# EAGLE library part LPC12D27FBD100 (library nxp_60_1_1)
LPC12D27 32-bit ARM Cortex-M0 microcontroller; 128 kB flash and 8 kB SRAM; 40 segment x 4 LCD driver AAL Eindhoven MK
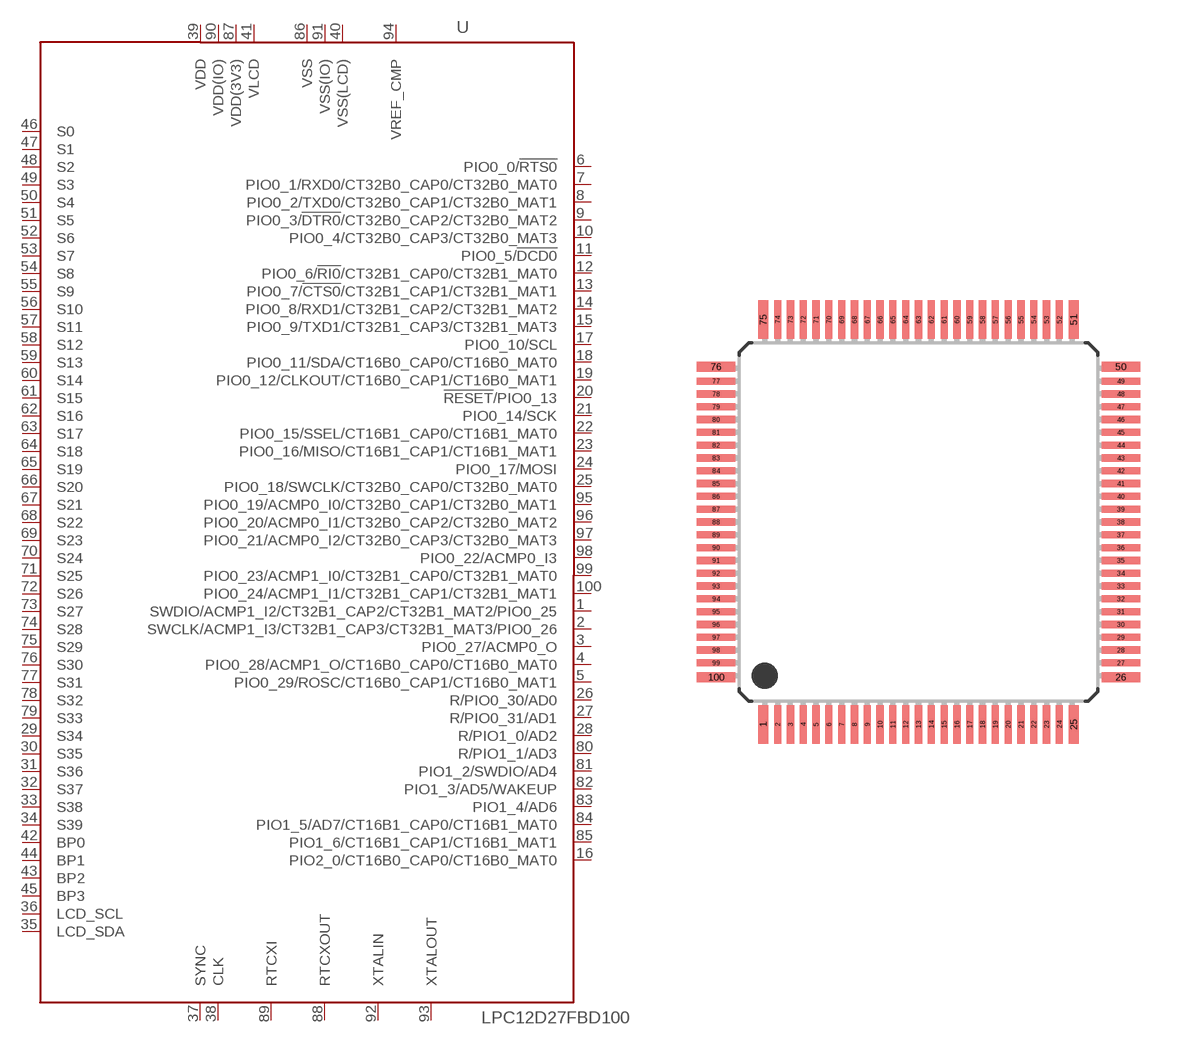
[diagram p39: symbol with the pads of SOT407-1; footprint SOT407-1]

Designator prefix U

## LPC12D27FBD100  [SOT407-1]
1  SWDIO/ACMP1_I2/CT32B1_CAP2/CT32B1_MAT2/PIO0_25
2  SWCLK/ACMP1_I3/CT32B1_CAP3/CT32B1_MAT3/PIO0_26
3  PIO0_27/ACMP0_O
4  PIO0_28/ACMP1_O/CT16B0_CAP0/CT16B0_MAT0
5  PIO0_29/ROSC/CT16B0_CAP1/CT16B0_MAT1
6  PIO0_0/!RTS0!
7  PIO0_1/RXD0/CT32B0_CAP0/CT32B0_MAT0
8  PIO0_2/TXD0/CT32B0_CAP1/CT32B0_MAT1
9  PIO0_3/!DTR0!/CT32B0_CAP2/CT32B0_MAT2
10  PIO0_4/CT32B0_CAP3/CT32B0_MAT3
11  PIO0_5/!DCD0!
12  PIO0_6/!RI0!/CT32B1_CAP0/CT32B1_MAT0
13  PIO0_7/!CTS0!/CT32B1_CAP1/CT32B1_MAT1
14  PIO0_8/RXD1/CT32B1_CAP2/CT32B1_MAT2
15  PIO0_9/TXD1/CT32B1_CAP3/CT32B1_MAT3
16  PIO2_0/CT16B0_CAP0/CT16B0_MAT0
17  PIO0_10/SCL
18  PIO0_11/SDA/CT16B0_CAP0/CT16B0_MAT0
19  PIO0_12/CLKOUT/CT16B0_CAP1/CT16B0_MAT1
20  !RESET!/PIO0_13
21  PIO0_14/SCK
22  PIO0_15/SSEL/CT16B1_CAP0/CT16B1_MAT0
23  PIO0_16/MISO/CT16B1_CAP1/CT16B1_MAT1
24  PIO0_17/MOSI
25  PIO0_18/SWCLK/CT32B0_CAP0/CT32B0_MAT0
26  R/PIO0_30/AD0
27  R/PIO0_31/AD1
28  R/PIO1_0/AD2
29  S34  out
30  S35  out
31  S36  out
32  S37  out
33  S38  out
34  S39  out
35  LCD_SDA
36  LCD_SCL
37  SYNC
38  CLK
39  VDD  pwr
40  VSS(LCD)  pwr
41  VLCD  pwr
42  BP0  out
43  BP2  out
44  BP1  out
45  BP3  out
46  S0  out
47  S1  out
48  S2  out
49  S3  out
50  S4  out
51  S5  out
52  S6  out
53  S7  out
54  S8  out
55  S9  out
56  S10  out
57  S11  out
58  S12  out
59  S13  out
60  S14  out
61  S15  out
62  S16  out
63  S17  out
64  S18  out
65  S19  out
66  S20  out
67  S21  out
68  S22  out
69  S23  out
70  S24  out
71  S25  out
72  S26  out
73  S27  out
74  S28  out
75  S29  out
76  S30  out
77  S31  out
78  S32  out
79  S33  out
80  R/PIO1_1/AD3
81  PIO1_2/SWDIO/AD4
82  PIO1_3/AD5/WAKEUP
83  PIO1_4/AD6
84  PIO1_5/AD7/CT16B1_CAP0/CT16B1_MAT0
85  PIO1_6/CT16B1_CAP1/CT16B1_MAT1
86  VSS  pwr
87  VDD(3V3)  pwr
88  RTCXOUT  pas
89  RTCXI  pas
90  VDD(IO)  pwr
91  VSS(IO)  pwr
92  XTALIN  pas
93  XTALOUT  pas
94  VREF_CMP  pwr
95  PIO0_19/ACMP0_I0/CT32B0_CAP1/CT32B0_MAT1
96  PIO0_20/ACMP0_I1/CT32B0_CAP2/CT32B0_MAT2
97  PIO0_21/ACMP0_I2/CT32B0_CAP3/CT32B0_MAT3
98  PIO0_22/ACMP0_I3
99  PIO0_23/ACMP1_I0/CT32B1_CAP0/CT32B1_MAT0
100  PIO0_24/ACMP1_I1/CT32B1_CAP1/CT32B1_MAT1

## Footprint SOT407-1 (pad centres in mm)
SOT407-1 LQFP100: plastic low profile quad flat package; 100 leads; body 14 x 14 x 1.4 mm JEDEC: MS-026 IEC: 136E20
smd 0.4 x 1.5: 1 -6.06,-7.9; 25 6.06,-7.9; 51 6.06,7.9; 75 -6.06,7.9
smd 0.28 x 1.5: 2 -5.5,-7.9; 3 -5,-7.9; 4 -4.5,-7.9; 5 -4,-7.9; 6 -3.5,-7.9; 7 -3,-7.9; 8 -2.5,-7.9; 9 -2,-7.9; 10 -1.5,-7.9; 11 -1,-7.9; 12 -0.5,-7.9; 13 0,-7.9; 14 0.5,-7.9; 15 1,-7.9; 16 1.5,-7.9; 17 2,-7.9; 18 2.5,-7.9; 19 3,-7.9; 20 3.5,-7.9; 21 4,-7.9; 22 4.5,-7.9; 23 5,-7.9; 24 5.5,-7.9; 52 5.5,7.9; 53 5,7.9; 54 4.5,7.9; 55 4,7.9; 56 3.5,7.9; 57 3,7.9; 58 2.5,7.9; 59 2,7.9; 60 1.5,7.9; 61 1,7.9; 62 0.5,7.9; 63 0,7.9; 64 -0.5,7.9; 65 -1,7.9; 66 -1.5,7.9; 67 -2,7.9; 68 -2.5,7.9; 69 -3,7.9; 70 -3.5,7.9; 71 -4,7.9; 72 -4.5,7.9; 73 -5,7.9; 74 -5.5,7.9
smd 1.5 x 0.4: 26 7.9,-6.06; 50 7.9,6.06; 76 -7.9,6.06; 100 -7.9,-6.06
smd 1.5 x 0.28: 27 7.9,-5.5; 28 7.9,-5; 29 7.9,-4.5; 30 7.9,-4; 31 7.9,-3.5; 32 7.9,-3; 33 7.9,-2.5; 34 7.9,-2; 35 7.9,-1.5; 36 7.9,-1; 37 7.9,-0.5; 38 7.9,0; 39 7.9,0.5; 40 7.9,1; 41 7.9,1.5; 42 7.9,2; 43 7.9,2.5; 44 7.9,3; 45 7.9,3.5; 46 7.9,4; 47 7.9,4.5; 48 7.9,5; 49 7.9,5.5; 77 -7.9,5.5; 78 -7.9,5; 79 -7.9,4.5; 80 -7.9,4; 81 -7.9,3.5; 82 -7.9,3; 83 -7.9,2.5; 84 -7.9,2; 85 -7.9,1.5; 86 -7.9,1; 87 -7.9,0.5; 88 -7.9,0; 89 -7.9,-0.5; 90 -7.9,-1; 91 -7.9,-1.5; 92 -7.9,-2; 93 -7.9,-2.5; 94 -7.9,-3; 95 -7.9,-3.5; 96 -7.9,-4; 97 -7.9,-4.5; 98 -7.9,-5; 99 -7.9,-5.5